# Altium integrated library sensor-comus-group.IntLib: 1 symbol
Pins are listed as number, name and electrical type; pins without a type are passive.

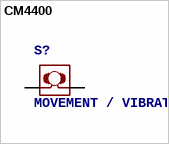
[diagram p0: symbol CM4400]

## CM4400
designator S?, comment MOVEMENT / VIBRATION SWITCH - Mercury Contacts   Source: Assemtech Europe Limited, E. Bachem GmbH Comus International, W. Gunther GmbH, Gunther Belgium
MPN: CM4400-1.; MF: FARNELL; OC_FARNELL: 540626; OC_NEWARK: 09WX7014
footprint CM4400
pins: 1, 2